# Altium integrated library Microchip PIC16 Part 1.IntLib: 1800 symbols (part 17 of 93)
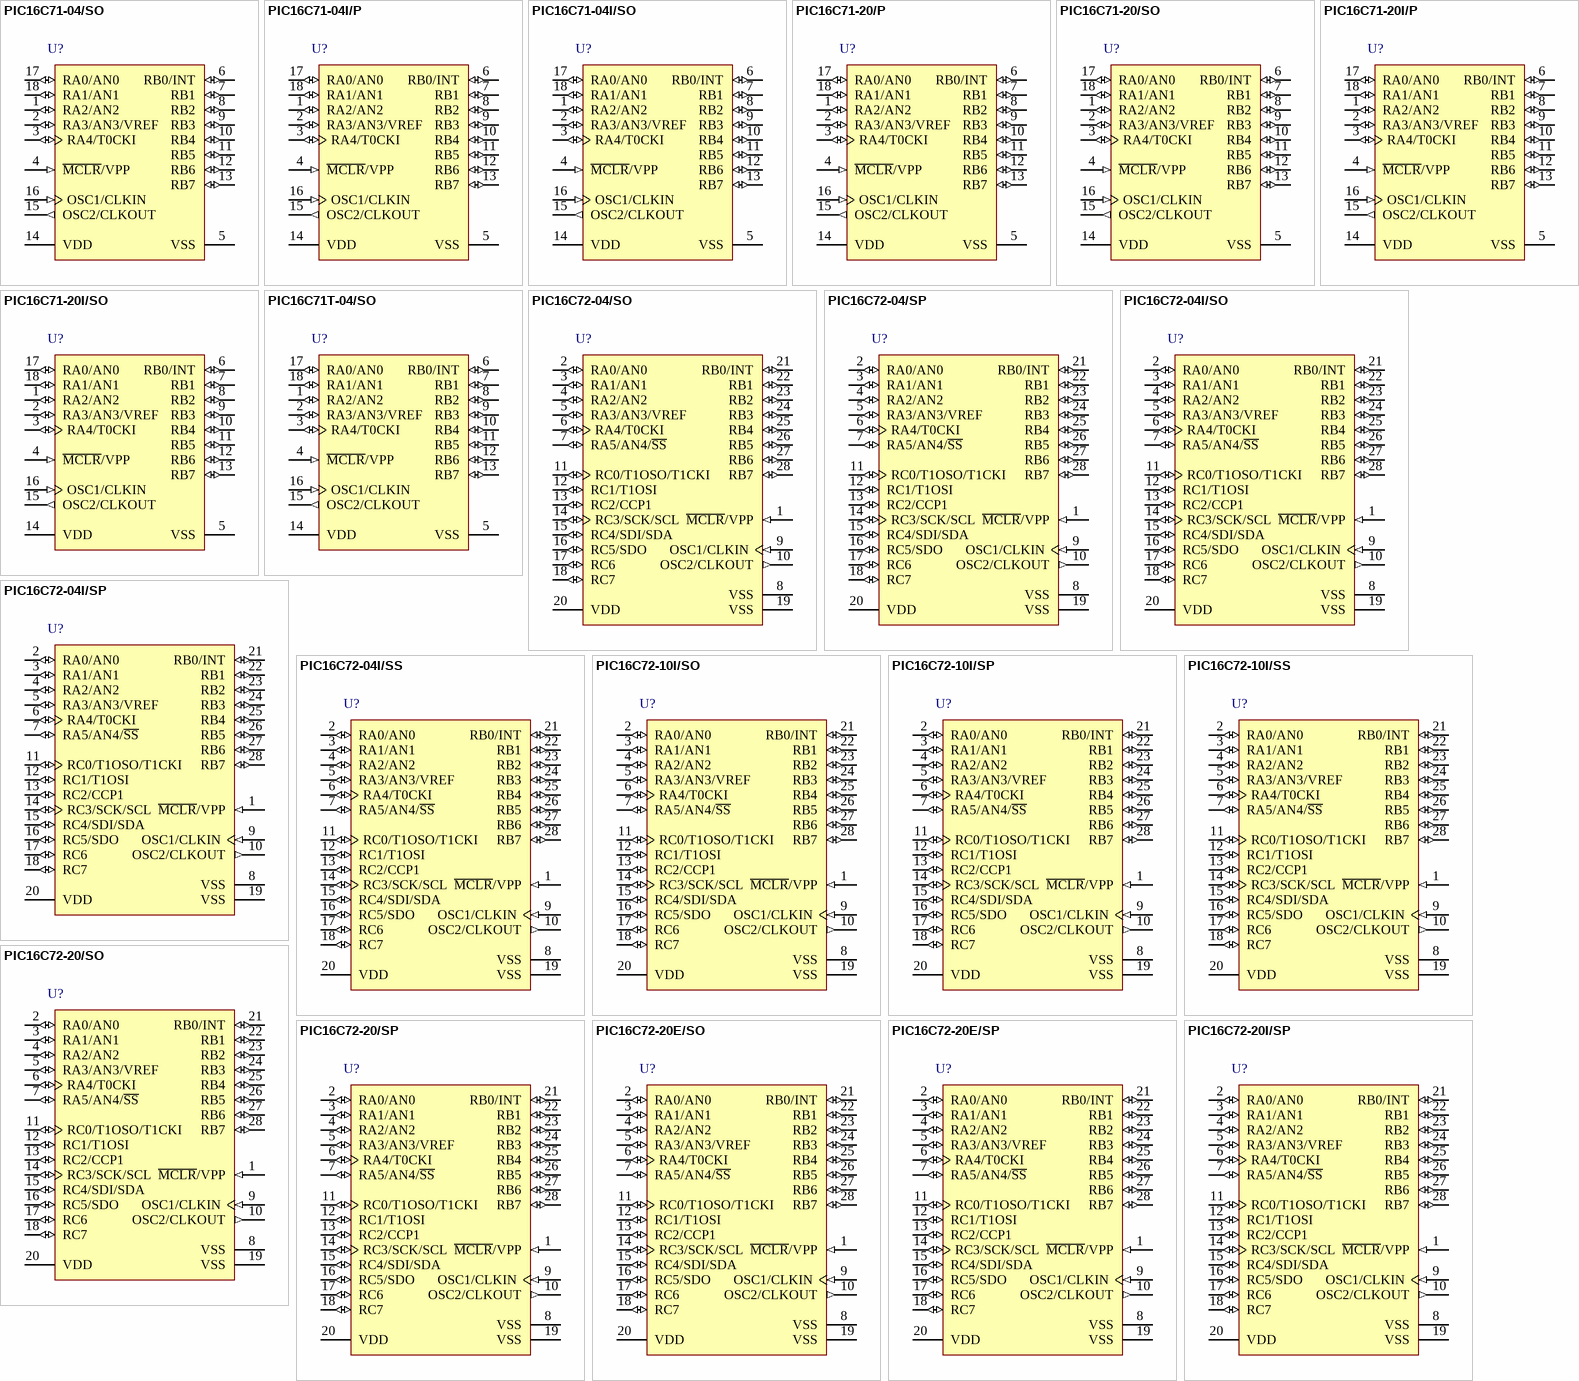
[diagram p116: symbols PIC16C71-04/SO to PIC16C72-20I/SP]

## PIC16C72-10I/SP
designator U?
8-Bit CMOS Microcontroller with A/D Converter, 10 MHz, 22 I/O, -40 to 85 degC, 28-pin SPDIP (SP28), Tube; Manufacturer: Microchip; PartNumber: PIC16C72-10I/SP; # of A/D Channels: 5; Digital Communication: 0 -UART, 0 -A/E/USART, 0 -SPI, 0 -I2C, 0 -MSSP(SPI/I2C), 1 -SSP(SPI/I2C); I/O Pins: 22; Max. CPU Speed MHz: 10; Memory Type: OTP; Operation Voltage Range: 2.5V - 6V; Program Memory KBytes: 3.5; Program Memory KWords: 2; RAM: 128; Timers: 2 - 8-bit, 1 - 16-bit; DatasheetVersion: Rev. E; PackageVersion: C04-070B, 12/2012; PackageReference: SPDIP-SP28; PackageDescription: 28-Lead Plastic Dual In-Line, 34.86 x 6.79 mm Body, 2.54 mm Pitch; Supplier 1: Digi-Key; Supplier Part Number 1: PIC16C72-10I/SP-ND; Supplier 2: Mouser; Supplier Part Number 2: 579-PIC16C72-10I/SP; Packing: TUBE; RoHS: TRUE; Mounting Technology: Through Hole; ComponentLink1Description: Datasheet; ComponentLink1URL: http://ww1.microchip.com/downloads/en/DeviceDoc/30390e.pdf; ComponentLink2Description: Package Specification; ComponentLink2URL: http://www.microchip.com/stellent/groups/techpub_sg/documents/packagingspec/en012702.pdf; ComponentLink3Description: URL Link1; ComponentLink3URL: Product URL:http://www.microchip.com/datasheet/PIC16C72
footprint MCHP-SPDIP-SP28 (DIP, 28-Leads, Body 34.86x6.79mm, Pitch 2.54mm)
pins: 1 ~{MCLR}/VPP (in), 2 RA0/AN0 (io), 3 RA1/AN1 (io), 4 RA2/AN2 (io), 5 RA3/AN3/VREF (io), 6 RA4/T0CKI (io), 7 RA5/AN4/~{SS} (io), 8 VSS (power) "Ground reference for logic and I/O pins.", 9 OSC1/CLKIN (in), 10 OSC2/CLKOUT (out), 11 RC0/T1OSO/T1CKI (io), 12 RC1/T1OSI (io), 13 RC2/CCP1 (io), 14 RC3/SCK/SCL (io), 15 RC4/SDI/SDA (io), 16 RC5/SDO (io), 17 RC6 (io) "PORTC is a bi-directional I/O port.", 18 RC7 (io) "PORTC is a bi-directional I/O port.", 19 VSS (power) "Ground reference for logic and I/O pins.", 20 VDD (power) "Positive supply for logic and I/O pins.", 21 RB0/INT (io), 22 RB1 (io) "PORTB is a bi-directional I/O port. PORTB can be software programmed for internal weak pull-up on all inputs.", 23 RB2 (io) "PORTB is a bi-directional I/O port. PORTB can be software programmed for internal weak pull-up on all inputs.", 24 RB3 (io) "PORTB is a bi-directional I/O port. PORTB can be software programmed for internal weak pull-up on all inputs.", 25 RB4 (io) "PORTB is a bi-directional I/O port. PORTB can be software programmed for internal weak pull-up on all inputs.Interrupt on change pin.", 26 RB5 (io) "PORTB is a bi-directional I/O port. PORTB can be software programmed for internal weak pull-up on all inputs.Interrupt on change pin.", 27 RB6 (io) "PORTB is a bi-directional I/O port. PORTB can be software programmed for internal weak pull-up on all inputs.Interrupt on change pin. Serial programming clock.", 28 RB7 (io) "PORTB is a bi-directional I/O port. PORTB can be software programmed for internal weak pull-up on all inputs.Interrupt on change pin. Serial programming data."

## PIC16C72-10I/SS
designator U?
8-Bit CMOS Microcontroller with A/D Converter, 10 MHz, 22 I/O, -40 to 85 degC, 28-pin SSOP (SS28), Tube; Manufacturer: Microchip; PartNumber: PIC16C72-10I/SS; # of A/D Channels: 5; Digital Communication: 0 -UART, 0 -A/E/USART, 0 -SPI, 0 -I2C, 0 -MSSP(SPI/I2C), 1 -SSP(SPI/I2C); I/O Pins: 22; Max. CPU Speed MHz: 10; Memory Type: OTP; Operation Voltage Range: 2.5V - 6V; Program Memory KBytes: 3.5; Program Memory KWords: 2; RAM: 128; Timers: 2 - 8-bit, 1 - 16-bit; DatasheetVersion: Rev. E; PackageVersion: C04-073B, 12/2012; PackageReference: SSOP-SS28; PackageDescription: 28-Lead Plastic Shrink Small Outline, 10.2 x 5.3 mm Body, 0.65 mm Pitch; Supplier 1: Digi-Key; Supplier Part Number 1: PIC16C72-10I/SS-ND; Supplier 2: Mouser; Supplier Part Number 2: 579-PIC16C72-10I/SS; Packing: TUBE; RoHS: TRUE; Mounting Technology: Surface Mount; ComponentLink1Description: Datasheet; ComponentLink1URL: http://ww1.microchip.com/downloads/en/DeviceDoc/30390e.pdf; ComponentLink2Description: Package Specification; ComponentLink2URL: http://www.microchip.com/stellent/groups/techpub_sg/documents/packagingspec/en012702.pdf; ComponentLink3Description: URL Link1; ComponentLink3URL: Product URL:http://www.microchip.com/datasheet/PIC16C72
footprint MCHP-SSOP-SS28_N (SOP, 28-Leads, Body 10.2x5.3mm, Pitch 0.65mm, IPC Medium Density)
footprint MCHP-SSOP-SS28_L (SOP, 28-Leads, Body 10.2x5.3mm, Pitch 0.65mm, IPC High Density)
footprint MCHP-SSOP-SS28_M (SOP, 28-Leads, Body 10.2x5.3mm, Pitch 0.65mm, IPC Low Density)
pins: 1 ~{MCLR}/VPP (in), 2 RA0/AN0 (io), 3 RA1/AN1 (io), 4 RA2/AN2 (io), 5 RA3/AN3/VREF (io), 6 RA4/T0CKI (io), 7 RA5/AN4/~{SS} (io), 8 VSS (power) "Ground reference for logic and I/O pins.", 9 OSC1/CLKIN (in), 10 OSC2/CLKOUT (out), 11 RC0/T1OSO/T1CKI (io), 12 RC1/T1OSI (io), 13 RC2/CCP1 (io), 14 RC3/SCK/SCL (io), 15 RC4/SDI/SDA (io), 16 RC5/SDO (io), 17 RC6 (io) "PORTC is a bi-directional I/O port.", 18 RC7 (io) "PORTC is a bi-directional I/O port.", 19 VSS (power) "Ground reference for logic and I/O pins.", 20 VDD (power) "Positive supply for logic and I/O pins.", 21 RB0/INT (io), 22 RB1 (io) "PORTB is a bi-directional I/O port. PORTB can be software programmed for internal weak pull-up on all inputs.", 23 RB2 (io) "PORTB is a bi-directional I/O port. PORTB can be software programmed for internal weak pull-up on all inputs.", 24 RB3 (io) "PORTB is a bi-directional I/O port. PORTB can be software programmed for internal weak pull-up on all inputs.", 25 RB4 (io) "PORTB is a bi-directional I/O port. PORTB can be software programmed for internal weak pull-up on all inputs.Interrupt on change pin.", 26 RB5 (io) "PORTB is a bi-directional I/O port. PORTB can be software programmed for internal weak pull-up on all inputs.Interrupt on change pin.", 27 RB6 (io) "PORTB is a bi-directional I/O port. PORTB can be software programmed for internal weak pull-up on all inputs.Interrupt on change pin. Serial programming clock.", 28 RB7 (io) "PORTB is a bi-directional I/O port. PORTB can be software programmed for internal weak pull-up on all inputs.Interrupt on change pin. Serial programming data."

## PIC16C72-20/SO
designator U?
8-Bit CMOS Microcontroller with A/D Converter, 20 MHz, 22 I/O, 0 to 70 degC, 28-pin SOIC (SO28), Tube; Manufacturer: Microchip; PartNumber: PIC16C72-20/SO; # of A/D Channels: 5; Digital Communication: 0 -UART, 0 -A/E/USART, 0 -SPI, 0 -I2C, 0 -MSSP(SPI/I2C), 1 -SSP(SPI/I2C); I/O Pins: 22; Max. CPU Speed MHz: 20; Memory Type: OTP; Operation Voltage Range: 2.5V - 6V; Program Memory KBytes: 3.5; Program Memory KWords: 2; RAM: 128; Timers: 2 - 8-bit, 1 - 16-bit; DatasheetVersion: Rev. E; PackageVersion: C04-052C, 12/2012; PackageReference: SOIC-SO28; PackageDescription: 28-Lead Plastic Small Outline, 17.9 x 7.5 mm Body, 1.27 mm Pitch; Supplier 1: Digi-Key; Supplier Part Number 1: PIC16C72-20/SO-ND; Supplier 2: Mouser; Supplier Part Number 2: 579-PIC16C72-20/SO; Packing: TUBE; RoHS: TRUE; Mounting Technology: Surface Mount; ComponentLink1Description: Datasheet; ComponentLink1URL: http://ww1.microchip.com/downloads/en/DeviceDoc/30390e.pdf; ComponentLink2Description: Package Specification; ComponentLink2URL: http://www.microchip.com/stellent/groups/techpub_sg/documents/packagingspec/en012702.pdf; ComponentLink3Description: URL Link1; ComponentLink3URL: Product URL:http://www.microchip.com/datasheet/PIC16C72
footprint MCHP-SOIC-SO28_N (SOIC, 28-Leads, Body 17.9x7.5mm, Pitch 1.27mm, IPC Medium Density)
footprint MCHP-SOIC-SO28_L (SOIC, 28-Leads, Body 17.9x7.5mm, Pitch 1.27mm, IPC High Density)
footprint MCHP-SOIC-SO28_M (SOIC, 28-Leads, Body 17.9x7.5mm, Pitch 1.27mm, IPC Low Density)
pins: 1 ~{MCLR}/VPP (in), 2 RA0/AN0 (io), 3 RA1/AN1 (io), 4 RA2/AN2 (io), 5 RA3/AN3/VREF (io), 6 RA4/T0CKI (io), 7 RA5/AN4/~{SS} (io), 8 VSS (power) "Ground reference for logic and I/O pins.", 9 OSC1/CLKIN (in), 10 OSC2/CLKOUT (out), 11 RC0/T1OSO/T1CKI (io), 12 RC1/T1OSI (io), 13 RC2/CCP1 (io), 14 RC3/SCK/SCL (io), 15 RC4/SDI/SDA (io), 16 RC5/SDO (io), 17 RC6 (io) "PORTC is a bi-directional I/O port.", 18 RC7 (io) "PORTC is a bi-directional I/O port.", 19 VSS (power) "Ground reference for logic and I/O pins.", 20 VDD (power) "Positive supply for logic and I/O pins.", 21 RB0/INT (io), 22 RB1 (io) "PORTB is a bi-directional I/O port. PORTB can be software programmed for internal weak pull-up on all inputs.", 23 RB2 (io) "PORTB is a bi-directional I/O port. PORTB can be software programmed for internal weak pull-up on all inputs.", 24 RB3 (io) "PORTB is a bi-directional I/O port. PORTB can be software programmed for internal weak pull-up on all inputs.", 25 RB4 (io) "PORTB is a bi-directional I/O port. PORTB can be software programmed for internal weak pull-up on all inputs.Interrupt on change pin.", 26 RB5 (io) "PORTB is a bi-directional I/O port. PORTB can be software programmed for internal weak pull-up on all inputs.Interrupt on change pin.", 27 RB6 (io) "PORTB is a bi-directional I/O port. PORTB can be software programmed for internal weak pull-up on all inputs.Interrupt on change pin. Serial programming clock.", 28 RB7 (io) "PORTB is a bi-directional I/O port. PORTB can be software programmed for internal weak pull-up on all inputs.Interrupt on change pin. Serial programming data."

## PIC16C72-20/SP
designator U?
8-Bit CMOS Microcontroller with A/D Converter, 20 MHz, 22 I/O, 0 to 70 degC, 28-pin SPDIP (SP28), Tube; Manufacturer: Microchip; PartNumber: PIC16C72-20/SP; # of A/D Channels: 5; Digital Communication: 0 -UART, 0 -A/E/USART, 0 -SPI, 0 -I2C, 0 -MSSP(SPI/I2C), 1 -SSP(SPI/I2C); I/O Pins: 22; Max. CPU Speed MHz: 20; Memory Type: OTP; Operation Voltage Range: 2.5V - 6V; Program Memory KBytes: 3.5; Program Memory KWords: 2; RAM: 128; Timers: 2 - 8-bit, 1 - 16-bit; DatasheetVersion: Rev. E; PackageVersion: C04-070B, 12/2012; PackageReference: SPDIP-SP28; PackageDescription: 28-Lead Plastic Dual In-Line, 34.86 x 6.79 mm Body, 2.54 mm Pitch; Supplier 1: Digi-Key; Supplier Part Number 1: PIC16C72-20/SP-ND; Supplier 2: Mouser; Supplier Part Number 2: 579-PIC16C72-20/SP; Packing: TUBE; RoHS: TRUE; Mounting Technology: Through Hole; ComponentLink1Description: Datasheet; ComponentLink1URL: http://ww1.microchip.com/downloads/en/DeviceDoc/30390e.pdf; ComponentLink2Description: Package Specification; ComponentLink2URL: http://www.microchip.com/stellent/groups/techpub_sg/documents/packagingspec/en012702.pdf; ComponentLink3Description: URL Link1; ComponentLink3URL: Product URL:http://www.microchip.com/datasheet/PIC16C72
footprint MCHP-SPDIP-SP28 (DIP, 28-Leads, Body 34.86x6.79mm, Pitch 2.54mm)
pins: 1 ~{MCLR}/VPP (in), 2 RA0/AN0 (io), 3 RA1/AN1 (io), 4 RA2/AN2 (io), 5 RA3/AN3/VREF (io), 6 RA4/T0CKI (io), 7 RA5/AN4/~{SS} (io), 8 VSS (power) "Ground reference for logic and I/O pins.", 9 OSC1/CLKIN (in), 10 OSC2/CLKOUT (out), 11 RC0/T1OSO/T1CKI (io), 12 RC1/T1OSI (io), 13 RC2/CCP1 (io), 14 RC3/SCK/SCL (io), 15 RC4/SDI/SDA (io), 16 RC5/SDO (io), 17 RC6 (io) "PORTC is a bi-directional I/O port.", 18 RC7 (io) "PORTC is a bi-directional I/O port.", 19 VSS (power) "Ground reference for logic and I/O pins.", 20 VDD (power) "Positive supply for logic and I/O pins.", 21 RB0/INT (io), 22 RB1 (io) "PORTB is a bi-directional I/O port. PORTB can be software programmed for internal weak pull-up on all inputs.", 23 RB2 (io) "PORTB is a bi-directional I/O port. PORTB can be software programmed for internal weak pull-up on all inputs.", 24 RB3 (io) "PORTB is a bi-directional I/O port. PORTB can be software programmed for internal weak pull-up on all inputs.", 25 RB4 (io) "PORTB is a bi-directional I/O port. PORTB can be software programmed for internal weak pull-up on all inputs.Interrupt on change pin.", 26 RB5 (io) "PORTB is a bi-directional I/O port. PORTB can be software programmed for internal weak pull-up on all inputs.Interrupt on change pin.", 27 RB6 (io) "PORTB is a bi-directional I/O port. PORTB can be software programmed for internal weak pull-up on all inputs.Interrupt on change pin. Serial programming clock.", 28 RB7 (io) "PORTB is a bi-directional I/O port. PORTB can be software programmed for internal weak pull-up on all inputs.Interrupt on change pin. Serial programming data."

## PIC16C72-20E/SO
designator U?
8-Bit CMOS Microcontroller with A/D Converter, 20 MHz, 22 I/O, -40 to 125 degC, 28-pin SOIC (SO28), Tube; Manufacturer: Microchip; PartNumber: PIC16C72-20E/SO; # of A/D Channels: 5; Digital Communication: 0 -UART, 0 -A/E/USART, 0 -SPI, 0 -I2C, 0 -MSSP(SPI/I2C), 1 -SSP(SPI/I2C); I/O Pins: 22; Max. CPU Speed MHz: 20; Memory Type: OTP; Operation Voltage Range: 2.5V - 6V; Program Memory KBytes: 3.5; Program Memory KWords: 2; RAM: 128; Timers: 2 - 8-bit, 1 - 16-bit; DatasheetVersion: Rev. E; PackageVersion: C04-052C, 12/2012; PackageReference: SOIC-SO28; PackageDescription: 28-Lead Plastic Small Outline, 17.9 x 7.5 mm Body, 1.27 mm Pitch; Supplier 1: Digi-Key; Supplier Part Number 1: PIC16C72-20E/SO-ND; Supplier 2: Mouser; Supplier Part Number 2: 579-PIC16C7220ESO; Packing: TUBE; RoHS: TRUE; Mounting Technology: Surface Mount; ComponentLink1Description: Datasheet; ComponentLink1URL: http://ww1.microchip.com/downloads/en/DeviceDoc/30390e.pdf; ComponentLink2Description: Package Specification; ComponentLink2URL: http://www.microchip.com/stellent/groups/techpub_sg/documents/packagingspec/en012702.pdf; ComponentLink3Description: URL Link1; ComponentLink3URL: Product URL:http://www.microchip.com/datasheet/PIC16C72
footprint MCHP-SOIC-SO28_N (SOIC, 28-Leads, Body 17.9x7.5mm, Pitch 1.27mm, IPC Medium Density)
footprint MCHP-SOIC-SO28_L (SOIC, 28-Leads, Body 17.9x7.5mm, Pitch 1.27mm, IPC High Density)
footprint MCHP-SOIC-SO28_M (SOIC, 28-Leads, Body 17.9x7.5mm, Pitch 1.27mm, IPC Low Density)
pins: 1 ~{MCLR}/VPP (in), 2 RA0/AN0 (io), 3 RA1/AN1 (io), 4 RA2/AN2 (io), 5 RA3/AN3/VREF (io), 6 RA4/T0CKI (io), 7 RA5/AN4/~{SS} (io), 8 VSS (power) "Ground reference for logic and I/O pins.", 9 OSC1/CLKIN (in), 10 OSC2/CLKOUT (out), 11 RC0/T1OSO/T1CKI (io), 12 RC1/T1OSI (io), 13 RC2/CCP1 (io), 14 RC3/SCK/SCL (io), 15 RC4/SDI/SDA (io), 16 RC5/SDO (io), 17 RC6 (io) "PORTC is a bi-directional I/O port.", 18 RC7 (io) "PORTC is a bi-directional I/O port.", 19 VSS (power) "Ground reference for logic and I/O pins.", 20 VDD (power) "Positive supply for logic and I/O pins.", 21 RB0/INT (io), 22 RB1 (io) "PORTB is a bi-directional I/O port. PORTB can be software programmed for internal weak pull-up on all inputs.", 23 RB2 (io) "PORTB is a bi-directional I/O port. PORTB can be software programmed for internal weak pull-up on all inputs.", 24 RB3 (io) "PORTB is a bi-directional I/O port. PORTB can be software programmed for internal weak pull-up on all inputs.", 25 RB4 (io) "PORTB is a bi-directional I/O port. PORTB can be software programmed for internal weak pull-up on all inputs.Interrupt on change pin.", 26 RB5 (io) "PORTB is a bi-directional I/O port. PORTB can be software programmed for internal weak pull-up on all inputs.Interrupt on change pin.", 27 RB6 (io) "PORTB is a bi-directional I/O port. PORTB can be software programmed for internal weak pull-up on all inputs.Interrupt on change pin. Serial programming clock.", 28 RB7 (io) "PORTB is a bi-directional I/O port. PORTB can be software programmed for internal weak pull-up on all inputs.Interrupt on change pin. Serial programming data."

## PIC16C72-20E/SP
designator U?
8-Bit CMOS Microcontroller with A/D Converter, 20 MHz, 22 I/O, -40 to 125 degC, 28-pin SPDIP (SP28), Tube; Manufacturer: Microchip; PartNumber: PIC16C72-20E/SP; # of A/D Channels: 5; Digital Communication: 0 -UART, 0 -A/E/USART, 0 -SPI, 0 -I2C, 0 -MSSP(SPI/I2C), 1 -SSP(SPI/I2C); I/O Pins: 22; Max. CPU Speed MHz: 20; Memory Type: OTP; Operation Voltage Range: 2.5V - 6V; Program Memory KBytes: 3.5; Program Memory KWords: 2; RAM: 128; Timers: 2 - 8-bit, 1 - 16-bit; DatasheetVersion: Rev. E; PackageVersion: C04-070B, 12/2012; PackageReference: SPDIP-SP28; PackageDescription: 28-Lead Plastic Dual In-Line, 34.86 x 6.79 mm Body, 2.54 mm Pitch; Supplier 1: Digi-Key; Supplier Part Number 1: PIC16C72-20E/SP-ND; Supplier 2: Mouser; Supplier Part Number 2: 579-PIC16C72-20E/SP; Packing: TUBE; RoHS: TRUE; Mounting Technology: Through Hole; ComponentLink1Description: Datasheet; ComponentLink1URL: http://ww1.microchip.com/downloads/en/DeviceDoc/30390e.pdf; ComponentLink2Description: Package Specification; ComponentLink2URL: http://www.microchip.com/stellent/groups/techpub_sg/documents/packagingspec/en012702.pdf; ComponentLink3Description: URL Link1; ComponentLink3URL: Product URL:http://www.microchip.com/datasheet/PIC16C72
footprint MCHP-SPDIP-SP28 (DIP, 28-Leads, Body 34.86x6.79mm, Pitch 2.54mm)
pins: 1 ~{MCLR}/VPP (in), 2 RA0/AN0 (io), 3 RA1/AN1 (io), 4 RA2/AN2 (io), 5 RA3/AN3/VREF (io), 6 RA4/T0CKI (io), 7 RA5/AN4/~{SS} (io), 8 VSS (power) "Ground reference for logic and I/O pins.", 9 OSC1/CLKIN (in), 10 OSC2/CLKOUT (out), 11 RC0/T1OSO/T1CKI (io), 12 RC1/T1OSI (io), 13 RC2/CCP1 (io), 14 RC3/SCK/SCL (io), 15 RC4/SDI/SDA (io), 16 RC5/SDO (io), 17 RC6 (io) "PORTC is a bi-directional I/O port.", 18 RC7 (io) "PORTC is a bi-directional I/O port.", 19 VSS (power) "Ground reference for logic and I/O pins.", 20 VDD (power) "Positive supply for logic and I/O pins.", 21 RB0/INT (io), 22 RB1 (io) "PORTB is a bi-directional I/O port. PORTB can be software programmed for internal weak pull-up on all inputs.", 23 RB2 (io) "PORTB is a bi-directional I/O port. PORTB can be software programmed for internal weak pull-up on all inputs.", 24 RB3 (io) "PORTB is a bi-directional I/O port. PORTB can be software programmed for internal weak pull-up on all inputs.", 25 RB4 (io) "PORTB is a bi-directional I/O port. PORTB can be software programmed for internal weak pull-up on all inputs.Interrupt on change pin.", 26 RB5 (io) "PORTB is a bi-directional I/O port. PORTB can be software programmed for internal weak pull-up on all inputs.Interrupt on change pin.", 27 RB6 (io) "PORTB is a bi-directional I/O port. PORTB can be software programmed for internal weak pull-up on all inputs.Interrupt on change pin. Serial programming clock.", 28 RB7 (io) "PORTB is a bi-directional I/O port. PORTB can be software programmed for internal weak pull-up on all inputs.Interrupt on change pin. Serial programming data."

## PIC16C72-20I/SP
designator U?
8-Bit CMOS Microcontroller with A/D Converter, 20 MHz, 22 I/O, -40 to 85 degC, 28-pin SPDIP (SP28), Tube; Manufacturer: Microchip; PartNumber: PIC16C72-20I/SP; # of A/D Channels: 5; Digital Communication: 0 -UART, 0 -A/E/USART, 0 -SPI, 0 -I2C, 0 -MSSP(SPI/I2C), 1 -SSP(SPI/I2C); I/O Pins: 22; Max. CPU Speed MHz: 20; Memory Type: OTP; Operation Voltage Range: 2.5V - 6V; Program Memory KBytes: 3.5; Program Memory KWords: 2; RAM: 128; Timers: 2 - 8-bit, 1 - 16-bit; DatasheetVersion: Rev. E; PackageVersion: C04-070B, 12/2012; PackageReference: SPDIP-SP28; PackageDescription: 28-Lead Plastic Dual In-Line, 34.86 x 6.79 mm Body, 2.54 mm Pitch; Supplier 1: Digi-Key; Supplier Part Number 1: PIC16C72-20I/SP-ND; Supplier 2: Mouser; Supplier Part Number 2: 579-PIC16C72-20I/SP; Packing: TUBE; RoHS: TRUE; Mounting Technology: Through Hole; ComponentLink1Description: Datasheet; ComponentLink1URL: http://ww1.microchip.com/downloads/en/DeviceDoc/30390e.pdf; ComponentLink2Description: Package Specification; ComponentLink2URL: http://www.microchip.com/stellent/groups/techpub_sg/documents/packagingspec/en012702.pdf; ComponentLink3Description: URL Link1; ComponentLink3URL: Product URL:http://www.microchip.com/datasheet/PIC16C72
footprint MCHP-SPDIP-SP28 (DIP, 28-Leads, Body 34.86x6.79mm, Pitch 2.54mm)
pins: 1 ~{MCLR}/VPP (in), 2 RA0/AN0 (io), 3 RA1/AN1 (io), 4 RA2/AN2 (io), 5 RA3/AN3/VREF (io), 6 RA4/T0CKI (io), 7 RA5/AN4/~{SS} (io), 8 VSS (power) "Ground reference for logic and I/O pins.", 9 OSC1/CLKIN (in), 10 OSC2/CLKOUT (out), 11 RC0/T1OSO/T1CKI (io), 12 RC1/T1OSI (io), 13 RC2/CCP1 (io), 14 RC3/SCK/SCL (io), 15 RC4/SDI/SDA (io), 16 RC5/SDO (io), 17 RC6 (io) "PORTC is a bi-directional I/O port.", 18 RC7 (io) "PORTC is a bi-directional I/O port.", 19 VSS (power) "Ground reference for logic and I/O pins.", 20 VDD (power) "Positive supply for logic and I/O pins.", 21 RB0/INT (io), 22 RB1 (io) "PORTB is a bi-directional I/O port. PORTB can be software programmed for internal weak pull-up on all inputs.", 23 RB2 (io) "PORTB is a bi-directional I/O port. PORTB can be software programmed for internal weak pull-up on all inputs.", 24 RB3 (io) "PORTB is a bi-directional I/O port. PORTB can be software programmed for internal weak pull-up on all inputs.", 25 RB4 (io) "PORTB is a bi-directional I/O port. PORTB can be software programmed for internal weak pull-up on all inputs.Interrupt on change pin.", 26 RB5 (io) "PORTB is a bi-directional I/O port. PORTB can be software programmed for internal weak pull-up on all inputs.Interrupt on change pin.", 27 RB6 (io) "PORTB is a bi-directional I/O port. PORTB can be software programmed for internal weak pull-up on all inputs.Interrupt on change pin. Serial programming clock.", 28 RB7 (io) "PORTB is a bi-directional I/O port. PORTB can be software programmed for internal weak pull-up on all inputs.Interrupt on change pin. Serial programming data."

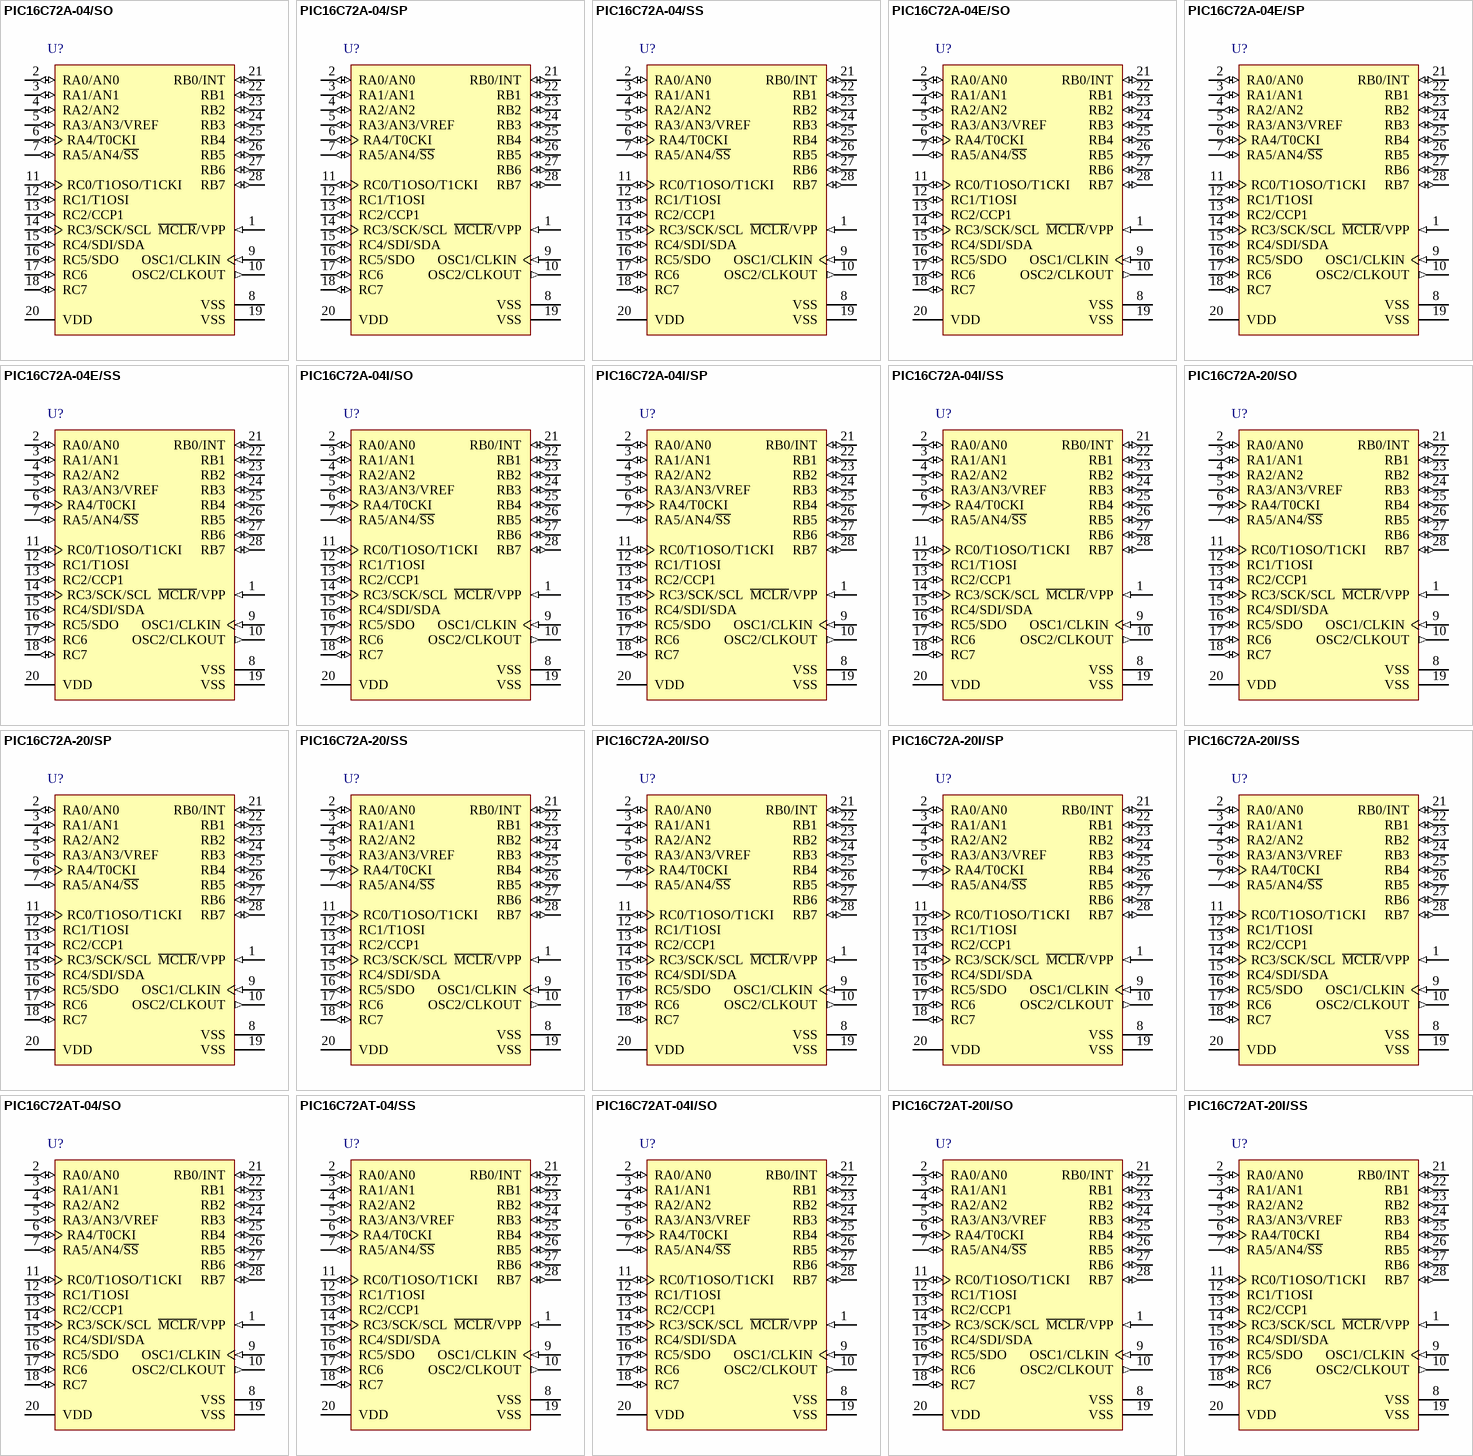
[diagram p14: symbols PIC16C72A-04/SO to PIC16C72AT-20I/SS]

## PIC16C72A-04/SO
designator U?
8-Bit CMOS Microcontroller, 4 MHz, 22 I/O, 0 to 70 degC, 28-pin SOIC (SO28), Tube; Manufacturer: Microchip; PartNumber: PIC16C72A-04/SO; # of A/D Channels: 5; Digital Communication: 0 -UART, 0 -A/E/USART, 0 -SPI, 0 -I2C, 0 -MSSP(SPI/I2C), 1 -SSP(SPI/I2C); I/O Pins: 22; Max. CPU Speed MHz: 4; Memory Type: OTP; Operation Voltage Range: 4V - 5.5V; Program Memory KBytes: 3.5; Program Memory KWords: 2; RAM: 128; Timers: 2 - 8-bit, 1 - 16-bit; DatasheetVersion: Rev. A; PackageVersion: C04-052C, 12/2012; PackageReference: SOIC-SO28; PackageDescription: 28-Lead Plastic Small Outline, 17.9 x 7.5 mm Body, 1.27 mm Pitch; Supplier 1: Digi-Key; Supplier Part Number 1: PIC16C72A-04/SO-ND; Supplier 2: Newark; Supplier Part Number 2: 96K3838; Supplier 3: Mouser; Supplier Part Number 3: 579-PIC16C72A-04/SO; Packing: TUBE; RoHS: TRUE; Mounting Technology: Surface Mount; ComponentLink1Description: Datasheet; ComponentLink1URL: http://ww1.microchip.com/downloads/en/DeviceDoc/35008C.pdf; ComponentLink2Description: Package Specification; ComponentLink2URL: http://www.microchip.com/stellent/groups/techpub_sg/documents/packagingspec/en012702.pdf; ComponentLink3Description: URL Link1; ComponentLink3URL: Product URL:http://www.microchip.com/datasheet/PIC16C72A
footprint MCHP-SOIC-SO28_N (SOIC, 28-Leads, Body 17.9x7.5mm, Pitch 1.27mm, IPC Medium Density)
footprint MCHP-SOIC-SO28_L (SOIC, 28-Leads, Body 17.9x7.5mm, Pitch 1.27mm, IPC High Density)
footprint MCHP-SOIC-SO28_M (SOIC, 28-Leads, Body 17.9x7.5mm, Pitch 1.27mm, IPC Low Density)
pins: 1 ~{MCLR}/VPP (in), 2 RA0/AN0 (io), 3 RA1/AN1 (io), 4 RA2/AN2 (io), 5 RA3/AN3/VREF (io), 6 RA4/T0CKI (io), 7 RA5/AN4/~{SS} (io), 8 VSS (power) "Ground reference for logic and I/O pins.", 9 OSC1/CLKIN (in), 10 OSC2/CLKOUT (out), 11 RC0/T1OSO/T1CKI (io), 12 RC1/T1OSI (io), 13 RC2/CCP1 (io), 14 RC3/SCK/SCL (io), 15 RC4/SDI/SDA (io), 16 RC5/SDO (io), 17 RC6 (io) "PORTC is a bi-directional I/O port.", 18 RC7 (io) "PORTC is a bi-directional I/O port.", 19 VSS (power) "Ground reference for logic and I/O pins.", 20 VDD (power) "Positive supply for logic and I/O pins.", 21 RB0/INT (io), 22 RB1 (io) "PORTB is a bi-directional I/O port. PORTB can be software programmed for internal weak pull-up on all inputs.", 23 RB2 (io) "PORTB is a bi-directional I/O port. PORTB can be software programmed for internal weak pull-up on all inputs.", 24 RB3 (io) "PORTB is a bi-directional I/O port. PORTB can be software programmed for internal weak pull-up on all inputs.", 25 RB4 (io) "PORTB is a bi-directional I/O port. PORTB can be software programmed for internal weak pull-up on all inputs.Interrupt on change pin.", 26 RB5 (io) "PORTB is a bi-directional I/O port. PORTB can be software programmed for internal weak pull-up on all inputs.Interrupt on change pin.", 27 RB6 (io) "PORTB is a bi-directional I/O port. PORTB can be software programmed for internal weak pull-up on all inputs.Interrupt on change pin. Serial programming clock.", 28 RB7 (io) "PORTB is a bi-directional I/O port. PORTB can be software programmed for internal weak pull-up on all inputs.Interrupt on change pin. Serial programming data."

## PIC16C72A-04/SP
designator U?
8-Bit CMOS Microcontroller, 4 MHz, 22 I/O, 0 to 70 degC, 28-pin SPDIP (SP28), Tube; Manufacturer: Microchip; PartNumber: PIC16C72A-04/SP; # of A/D Channels: 5; Digital Communication: 0 -UART, 0 -A/E/USART, 0 -SPI, 0 -I2C, 0 -MSSP(SPI/I2C), 1 -SSP(SPI/I2C); I/O Pins: 22; Max. CPU Speed MHz: 4; Memory Type: OTP; Operation Voltage Range: 4V - 5.5V; Program Memory KBytes: 3.5; Program Memory KWords: 2; RAM: 128; Timers: 2 - 8-bit, 1 - 16-bit; DatasheetVersion: Rev. A; PackageVersion: C04-070B, 12/2012; PackageReference: SPDIP-SP28; PackageDescription: 28-Lead Plastic Dual In-Line, 34.86 x 6.79 mm Body, 2.54 mm Pitch; Supplier 1: Digi-Key; Supplier Part Number 1: PIC16C72A-04/SP-ND; Supplier 2: Farnell; Supplier Part Number 2: 1137317; Supplier 3: Newark; Supplier Part Number 3: 24M5881; Supplier 4: Newark; Supplier Part Number 4: 12C1924; Supplier 5: Mouser; Supplier Part Number 5: 579-PIC16C72A04SP; Packing: TUBE; RoHS: TRUE; Mounting Technology: Through Hole; ComponentLink1Description: Datasheet; ComponentLink1URL: http://ww1.microchip.com/downloads/en/DeviceDoc/35008C.pdf; ComponentLink2Description: Package Specification; ComponentLink2URL: http://www.microchip.com/stellent/groups/techpub_sg/documents/packagingspec/en012702.pdf; ComponentLink3Description: URL Link1; ComponentLink3URL: Product URL:http://www.microchip.com/datasheet/PIC16C72A
footprint MCHP-SPDIP-SP28 (DIP, 28-Leads, Body 34.86x6.79mm, Pitch 2.54mm)
pins: 1 ~{MCLR}/VPP (in), 2 RA0/AN0 (io), 3 RA1/AN1 (io), 4 RA2/AN2 (io), 5 RA3/AN3/VREF (io), 6 RA4/T0CKI (io), 7 RA5/AN4/~{SS} (io), 8 VSS (power) "Ground reference for logic and I/O pins.", 9 OSC1/CLKIN (in), 10 OSC2/CLKOUT (out), 11 RC0/T1OSO/T1CKI (io), 12 RC1/T1OSI (io), 13 RC2/CCP1 (io), 14 RC3/SCK/SCL (io), 15 RC4/SDI/SDA (io), 16 RC5/SDO (io), 17 RC6 (io) "PORTC is a bi-directional I/O port.", 18 RC7 (io) "PORTC is a bi-directional I/O port.", 19 VSS (power) "Ground reference for logic and I/O pins.", 20 VDD (power) "Positive supply for logic and I/O pins.", 21 RB0/INT (io), 22 RB1 (io) "PORTB is a bi-directional I/O port. PORTB can be software programmed for internal weak pull-up on all inputs.", 23 RB2 (io) "PORTB is a bi-directional I/O port. PORTB can be software programmed for internal weak pull-up on all inputs.", 24 RB3 (io) "PORTB is a bi-directional I/O port. PORTB can be software programmed for internal weak pull-up on all inputs.", 25 RB4 (io) "PORTB is a bi-directional I/O port. PORTB can be software programmed for internal weak pull-up on all inputs.Interrupt on change pin.", 26 RB5 (io) "PORTB is a bi-directional I/O port. PORTB can be software programmed for internal weak pull-up on all inputs.Interrupt on change pin.", 27 RB6 (io) "PORTB is a bi-directional I/O port. PORTB can be software programmed for internal weak pull-up on all inputs.Interrupt on change pin. Serial programming clock.", 28 RB7 (io) "PORTB is a bi-directional I/O port. PORTB can be software programmed for internal weak pull-up on all inputs.Interrupt on change pin. Serial programming data."

## PIC16C72A-04/SS
designator U?
8-Bit CMOS Microcontroller, 4 MHz, 22 I/O, 0 to 70 degC, 28-pin SSOP (SS28), Tube; Manufacturer: Microchip; PartNumber: PIC16C72A-04/SS; # of A/D Channels: 5; Digital Communication: 0 -UART, 0 -A/E/USART, 0 -SPI, 0 -I2C, 0 -MSSP(SPI/I2C), 1 -SSP(SPI/I2C); I/O Pins: 22; Max. CPU Speed MHz: 4; Memory Type: OTP; Operation Voltage Range: 4V - 5.5V; Program Memory KBytes: 3.5; Program Memory KWords: 2; RAM: 128; Timers: 2 - 8-bit, 1 - 16-bit; DatasheetVersion: Rev. A; PackageVersion: C04-073B, 12/2012; PackageReference: SSOP-SS28; PackageDescription: 28-Lead Plastic Shrink Small Outline, 10.2 x 5.3 mm Body, 0.65 mm Pitch; Supplier 1: Digi-Key; Supplier Part Number 1: PIC16C72A-04/SS-ND; Supplier 2: Newark; Supplier Part Number 2: 23C4612; Supplier 3: Mouser; Supplier Part Number 3: 579-PIC16C72A-04/SS; Packing: TUBE; RoHS: TRUE; Mounting Technology: Surface Mount; ComponentLink1Description: Datasheet; ComponentLink1URL: http://ww1.microchip.com/downloads/en/DeviceDoc/35008C.pdf; ComponentLink2Description: Package Specification; ComponentLink2URL: http://www.microchip.com/stellent/groups/techpub_sg/documents/packagingspec/en012702.pdf; ComponentLink3Description: URL Link1; ComponentLink3URL: Product URL:http://www.microchip.com/datasheet/PIC16C72A
footprint MCHP-SSOP-SS28_N (SOP, 28-Leads, Body 10.2x5.3mm, Pitch 0.65mm, IPC Medium Density)
footprint MCHP-SSOP-SS28_L (SOP, 28-Leads, Body 10.2x5.3mm, Pitch 0.65mm, IPC High Density)
footprint MCHP-SSOP-SS28_M (SOP, 28-Leads, Body 10.2x5.3mm, Pitch 0.65mm, IPC Low Density)
pins: 1 ~{MCLR}/VPP (in), 2 RA0/AN0 (io), 3 RA1/AN1 (io), 4 RA2/AN2 (io), 5 RA3/AN3/VREF (io), 6 RA4/T0CKI (io), 7 RA5/AN4/~{SS} (io), 8 VSS (power) "Ground reference for logic and I/O pins.", 9 OSC1/CLKIN (in), 10 OSC2/CLKOUT (out), 11 RC0/T1OSO/T1CKI (io), 12 RC1/T1OSI (io), 13 RC2/CCP1 (io), 14 RC3/SCK/SCL (io), 15 RC4/SDI/SDA (io), 16 RC5/SDO (io), 17 RC6 (io) "PORTC is a bi-directional I/O port.", 18 RC7 (io) "PORTC is a bi-directional I/O port.", 19 VSS (power) "Ground reference for logic and I/O pins.", 20 VDD (power) "Positive supply for logic and I/O pins.", 21 RB0/INT (io), 22 RB1 (io) "PORTB is a bi-directional I/O port. PORTB can be software programmed for internal weak pull-up on all inputs.", 23 RB2 (io) "PORTB is a bi-directional I/O port. PORTB can be software programmed for internal weak pull-up on all inputs.", 24 RB3 (io) "PORTB is a bi-directional I/O port. PORTB can be software programmed for internal weak pull-up on all inputs.", 25 RB4 (io) "PORTB is a bi-directional I/O port. PORTB can be software programmed for internal weak pull-up on all inputs.Interrupt on change pin.", 26 RB5 (io) "PORTB is a bi-directional I/O port. PORTB can be software programmed for internal weak pull-up on all inputs.Interrupt on change pin.", 27 RB6 (io) "PORTB is a bi-directional I/O port. PORTB can be software programmed for internal weak pull-up on all inputs.Interrupt on change pin. Serial programming clock.", 28 RB7 (io) "PORTB is a bi-directional I/O port. PORTB can be software programmed for internal weak pull-up on all inputs.Interrupt on change pin. Serial programming data."

## PIC16C72A-04E/SO
designator U?
8-Bit CMOS Microcontroller, 4 MHz, 22 I/O, -40 to 125 degC, 28-pin SOIC (SO28), Tube; Manufacturer: Microchip; PartNumber: PIC16C72A-04E/SO; # of A/D Channels: 5; Digital Communication: 0 -UART, 0 -A/E/USART, 0 -SPI, 0 -I2C, 0 -MSSP(SPI/I2C), 1 -SSP(SPI/I2C); I/O Pins: 22; Max. CPU Speed MHz: 4; Memory Type: OTP; Operation Voltage Range: 4V - 5.5V; Program Memory KBytes: 3.5; Program Memory KWords: 2; RAM: 128; Timers: 2 - 8-bit, 1 - 16-bit; DatasheetVersion: Rev. A; PackageVersion: C04-052C, 12/2012; PackageReference: SOIC-SO28; PackageDescription: 28-Lead Plastic Small Outline, 17.9 x 7.5 mm Body, 1.27 mm Pitch; Supplier 1: Digi-Key; Supplier Part Number 1: PIC16C72A-04E/SO-ND; Supplier 2: Mouser; Supplier Part Number 2: 579-PIC16C72A-04E/SO; Packing: TUBE; RoHS: TRUE; Mounting Technology: Surface Mount; ComponentLink1Description: Datasheet; ComponentLink1URL: http://ww1.microchip.com/downloads/en/DeviceDoc/35008C.pdf; ComponentLink2Description: Package Specification; ComponentLink2URL: http://www.microchip.com/stellent/groups/techpub_sg/documents/packagingspec/en012702.pdf; ComponentLink3Description: URL Link1; ComponentLink3URL: Product URL:http://www.microchip.com/datasheet/PIC16C72A
footprint MCHP-SOIC-SO28_N (SOIC, 28-Leads, Body 17.9x7.5mm, Pitch 1.27mm, IPC Medium Density)
footprint MCHP-SOIC-SO28_L (SOIC, 28-Leads, Body 17.9x7.5mm, Pitch 1.27mm, IPC High Density)
footprint MCHP-SOIC-SO28_M (SOIC, 28-Leads, Body 17.9x7.5mm, Pitch 1.27mm, IPC Low Density)
pins: 1 ~{MCLR}/VPP (in), 2 RA0/AN0 (io), 3 RA1/AN1 (io), 4 RA2/AN2 (io), 5 RA3/AN3/VREF (io), 6 RA4/T0CKI (io), 7 RA5/AN4/~{SS} (io), 8 VSS (power) "Ground reference for logic and I/O pins.", 9 OSC1/CLKIN (in), 10 OSC2/CLKOUT (out), 11 RC0/T1OSO/T1CKI (io), 12 RC1/T1OSI (io), 13 RC2/CCP1 (io), 14 RC3/SCK/SCL (io), 15 RC4/SDI/SDA (io), 16 RC5/SDO (io), 17 RC6 (io) "PORTC is a bi-directional I/O port.", 18 RC7 (io) "PORTC is a bi-directional I/O port.", 19 VSS (power) "Ground reference for logic and I/O pins.", 20 VDD (power) "Positive supply for logic and I/O pins.", 21 RB0/INT (io), 22 RB1 (io) "PORTB is a bi-directional I/O port. PORTB can be software programmed for internal weak pull-up on all inputs.", 23 RB2 (io) "PORTB is a bi-directional I/O port. PORTB can be software programmed for internal weak pull-up on all inputs.", 24 RB3 (io) "PORTB is a bi-directional I/O port. PORTB can be software programmed for internal weak pull-up on all inputs.", 25 RB4 (io) "PORTB is a bi-directional I/O port. PORTB can be software programmed for internal weak pull-up on all inputs.Interrupt on change pin.", 26 RB5 (io) "PORTB is a bi-directional I/O port. PORTB can be software programmed for internal weak pull-up on all inputs.Interrupt on change pin.", 27 RB6 (io) "PORTB is a bi-directional I/O port. PORTB can be software programmed for internal weak pull-up on all inputs.Interrupt on change pin. Serial programming clock.", 28 RB7 (io) "PORTB is a bi-directional I/O port. PORTB can be software programmed for internal weak pull-up on all inputs.Interrupt on change pin. Serial programming data."

## PIC16C72A-04E/SP
designator U?
8-Bit CMOS Microcontroller, 4 MHz, 22 I/O, -40 to 125 degC, 28-pin SPDIP (SP28), Tube; Manufacturer: Microchip; PartNumber: PIC16C72A-04E/SP; # of A/D Channels: 5; Digital Communication: 0 -UART, 0 -A/E/USART, 0 -SPI, 0 -I2C, 0 -MSSP(SPI/I2C), 1 -SSP(SPI/I2C); I/O Pins: 22; Max. CPU Speed MHz: 4; Memory Type: OTP; Operation Voltage Range: 4V - 5.5V; Program Memory KBytes: 3.5; Program Memory KWords: 2; RAM: 128; Timers: 2 - 8-bit, 1 - 16-bit; DatasheetVersion: Rev. A; PackageVersion: C04-070B, 12/2012; PackageReference: SPDIP-SP28; PackageDescription: 28-Lead Plastic Dual In-Line, 34.86 x 6.79 mm Body, 2.54 mm Pitch; Supplier 1: Digi-Key; Supplier Part Number 1: PIC16C72A-04E/SP-ND; Supplier 2: Mouser; Supplier Part Number 2: 579-PIC16C72A-04E/SP; Packing: TUBE; RoHS: TRUE; Mounting Technology: Through Hole; ComponentLink1Description: Datasheet; ComponentLink1URL: http://ww1.microchip.com/downloads/en/DeviceDoc/35008C.pdf; ComponentLink2Description: Package Specification; ComponentLink2URL: http://www.microchip.com/stellent/groups/techpub_sg/documents/packagingspec/en012702.pdf; ComponentLink3Description: URL Link1; ComponentLink3URL: Product URL:http://www.microchip.com/datasheet/PIC16C72A
footprint MCHP-SPDIP-SP28 (DIP, 28-Leads, Body 34.86x6.79mm, Pitch 2.54mm)
pins: 1 ~{MCLR}/VPP (in), 2 RA0/AN0 (io), 3 RA1/AN1 (io), 4 RA2/AN2 (io), 5 RA3/AN3/VREF (io), 6 RA4/T0CKI (io), 7 RA5/AN4/~{SS} (io), 8 VSS (power) "Ground reference for logic and I/O pins.", 9 OSC1/CLKIN (in), 10 OSC2/CLKOUT (out), 11 RC0/T1OSO/T1CKI (io), 12 RC1/T1OSI (io), 13 RC2/CCP1 (io), 14 RC3/SCK/SCL (io), 15 RC4/SDI/SDA (io), 16 RC5/SDO (io), 17 RC6 (io) "PORTC is a bi-directional I/O port.", 18 RC7 (io) "PORTC is a bi-directional I/O port.", 19 VSS (power) "Ground reference for logic and I/O pins.", 20 VDD (power) "Positive supply for logic and I/O pins.", 21 RB0/INT (io), 22 RB1 (io) "PORTB is a bi-directional I/O port. PORTB can be software programmed for internal weak pull-up on all inputs.", 23 RB2 (io) "PORTB is a bi-directional I/O port. PORTB can be software programmed for internal weak pull-up on all inputs.", 24 RB3 (io) "PORTB is a bi-directional I/O port. PORTB can be software programmed for internal weak pull-up on all inputs.", 25 RB4 (io) "PORTB is a bi-directional I/O port. PORTB can be software programmed for internal weak pull-up on all inputs.Interrupt on change pin.", 26 RB5 (io) "PORTB is a bi-directional I/O port. PORTB can be software programmed for internal weak pull-up on all inputs.Interrupt on change pin.", 27 RB6 (io) "PORTB is a bi-directional I/O port. PORTB can be software programmed for internal weak pull-up on all inputs.Interrupt on change pin. Serial programming clock.", 28 RB7 (io) "PORTB is a bi-directional I/O port. PORTB can be software programmed for internal weak pull-up on all inputs.Interrupt on change pin. Serial programming data."

## PIC16C72A-04E/SS
designator U?
8-Bit CMOS Microcontroller, 4 MHz, 22 I/O, -40 to 125 degC, 28-pin SSOP (SS28), Tube; Manufacturer: Microchip; PartNumber: PIC16C72A-04E/SS; # of A/D Channels: 5; Digital Communication: 0 -UART, 0 -A/E/USART, 0 -SPI, 0 -I2C, 0 -MSSP(SPI/I2C), 1 -SSP(SPI/I2C); I/O Pins: 22; Max. CPU Speed MHz: 4; Memory Type: OTP; Operation Voltage Range: 4V - 5.5V; Program Memory KBytes: 3.5; Program Memory KWords: 2; RAM: 128; Timers: 2 - 8-bit, 1 - 16-bit; DatasheetVersion: Rev. A; PackageVersion: C04-073B, 12/2012; PackageReference: SSOP-SS28; PackageDescription: 28-Lead Plastic Shrink Small Outline, 10.2 x 5.3 mm Body, 0.65 mm Pitch; Supplier 1: Digi-Key; Supplier Part Number 1: PIC16C72A-04E/SS-ND; Supplier 2: Mouser; Supplier Part Number 2: 579-PIC16C72A-04E/SS; Packing: TUBE; RoHS: TRUE; Mounting Technology: Surface Mount; ComponentLink1Description: Datasheet; ComponentLink1URL: http://ww1.microchip.com/downloads/en/DeviceDoc/35008C.pdf; ComponentLink2Description: Package Specification; ComponentLink2URL: http://www.microchip.com/stellent/groups/techpub_sg/documents/packagingspec/en012702.pdf; ComponentLink3Description: URL Link1; ComponentLink3URL: Product URL:http://www.microchip.com/datasheet/PIC16C72A
footprint MCHP-SSOP-SS28_N (SOP, 28-Leads, Body 10.2x5.3mm, Pitch 0.65mm, IPC Medium Density)
footprint MCHP-SSOP-SS28_L (SOP, 28-Leads, Body 10.2x5.3mm, Pitch 0.65mm, IPC High Density)
footprint MCHP-SSOP-SS28_M (SOP, 28-Leads, Body 10.2x5.3mm, Pitch 0.65mm, IPC Low Density)
pins: 1 ~{MCLR}/VPP (in), 2 RA0/AN0 (io), 3 RA1/AN1 (io), 4 RA2/AN2 (io), 5 RA3/AN3/VREF (io), 6 RA4/T0CKI (io), 7 RA5/AN4/~{SS} (io), 8 VSS (power) "Ground reference for logic and I/O pins.", 9 OSC1/CLKIN (in), 10 OSC2/CLKOUT (out), 11 RC0/T1OSO/T1CKI (io), 12 RC1/T1OSI (io), 13 RC2/CCP1 (io), 14 RC3/SCK/SCL (io), 15 RC4/SDI/SDA (io), 16 RC5/SDO (io), 17 RC6 (io) "PORTC is a bi-directional I/O port.", 18 RC7 (io) "PORTC is a bi-directional I/O port.", 19 VSS (power) "Ground reference for logic and I/O pins.", 20 VDD (power) "Positive supply for logic and I/O pins.", 21 RB0/INT (io), 22 RB1 (io) "PORTB is a bi-directional I/O port. PORTB can be software programmed for internal weak pull-up on all inputs.", 23 RB2 (io) "PORTB is a bi-directional I/O port. PORTB can be software programmed for internal weak pull-up on all inputs.", 24 RB3 (io) "PORTB is a bi-directional I/O port. PORTB can be software programmed for internal weak pull-up on all inputs.", 25 RB4 (io) "PORTB is a bi-directional I/O port. PORTB can be software programmed for internal weak pull-up on all inputs.Interrupt on change pin.", 26 RB5 (io) "PORTB is a bi-directional I/O port. PORTB can be software programmed for internal weak pull-up on all inputs.Interrupt on change pin.", 27 RB6 (io) "PORTB is a bi-directional I/O port. PORTB can be software programmed for internal weak pull-up on all inputs.Interrupt on change pin. Serial programming clock.", 28 RB7 (io) "PORTB is a bi-directional I/O port. PORTB can be software programmed for internal weak pull-up on all inputs.Interrupt on change pin. Serial programming data."

## PIC16C72A-04I/SO
designator U?
8-Bit CMOS Microcontroller, 4 MHz, 22 I/O, -40 to 85 degC, 28-pin SOIC (SO28), Tube; Manufacturer: Microchip; PartNumber: PIC16C72A-04I/SO; # of A/D Channels: 5; Digital Communication: 0 -UART, 0 -A/E/USART, 0 -SPI, 0 -I2C, 0 -MSSP(SPI/I2C), 1 -SSP(SPI/I2C); I/O Pins: 22; Max. CPU Speed MHz: 4; Memory Type: OTP; Operation Voltage Range: 4V - 5.5V; Program Memory KBytes: 3.5; Program Memory KWords: 2; RAM: 128; Timers: 2 - 8-bit, 1 - 16-bit; DatasheetVersion: Rev. A; PackageVersion: C04-052C, 12/2012; PackageReference: SOIC-SO28; PackageDescription: 28-Lead Plastic Small Outline, 17.9 x 7.5 mm Body, 1.27 mm Pitch; Supplier 1: Digi-Key; Supplier Part Number 1: PIC16C72A-04I/SO-ND; Supplier 2: Newark; Supplier Part Number 2: 23C4616; Supplier 3: Mouser; Supplier Part Number 3: 579-PIC16C72A04ISO; Packing: TUBE; RoHS: TRUE; Mounting Technology: Surface Mount; ComponentLink1Description: Datasheet; ComponentLink1URL: http://ww1.microchip.com/downloads/en/DeviceDoc/35008C.pdf; ComponentLink2Description: Package Specification; ComponentLink2URL: http://www.microchip.com/stellent/groups/techpub_sg/documents/packagingspec/en012702.pdf; ComponentLink3Description: URL Link1; ComponentLink3URL: Product URL:http://www.microchip.com/datasheet/PIC16C72A
footprint MCHP-SOIC-SO28_N (SOIC, 28-Leads, Body 17.9x7.5mm, Pitch 1.27mm, IPC Medium Density)
footprint MCHP-SOIC-SO28_L (SOIC, 28-Leads, Body 17.9x7.5mm, Pitch 1.27mm, IPC High Density)
footprint MCHP-SOIC-SO28_M (SOIC, 28-Leads, Body 17.9x7.5mm, Pitch 1.27mm, IPC Low Density)
pins: 1 ~{MCLR}/VPP (in), 2 RA0/AN0 (io), 3 RA1/AN1 (io), 4 RA2/AN2 (io), 5 RA3/AN3/VREF (io), 6 RA4/T0CKI (io), 7 RA5/AN4/~{SS} (io), 8 VSS (power) "Ground reference for logic and I/O pins.", 9 OSC1/CLKIN (in), 10 OSC2/CLKOUT (out), 11 RC0/T1OSO/T1CKI (io), 12 RC1/T1OSI (io), 13 RC2/CCP1 (io), 14 RC3/SCK/SCL (io), 15 RC4/SDI/SDA (io), 16 RC5/SDO (io), 17 RC6 (io) "PORTC is a bi-directional I/O port.", 18 RC7 (io) "PORTC is a bi-directional I/O port.", 19 VSS (power) "Ground reference for logic and I/O pins.", 20 VDD (power) "Positive supply for logic and I/O pins.", 21 RB0/INT (io), 22 RB1 (io) "PORTB is a bi-directional I/O port. PORTB can be software programmed for internal weak pull-up on all inputs.", 23 RB2 (io) "PORTB is a bi-directional I/O port. PORTB can be software programmed for internal weak pull-up on all inputs.", 24 RB3 (io) "PORTB is a bi-directional I/O port. PORTB can be software programmed for internal weak pull-up on all inputs.", 25 RB4 (io) "PORTB is a bi-directional I/O port. PORTB can be software programmed for internal weak pull-up on all inputs.Interrupt on change pin.", 26 RB5 (io) "PORTB is a bi-directional I/O port. PORTB can be software programmed for internal weak pull-up on all inputs.Interrupt on change pin.", 27 RB6 (io) "PORTB is a bi-directional I/O port. PORTB can be software programmed for internal weak pull-up on all inputs.Interrupt on change pin. Serial programming clock.", 28 RB7 (io) "PORTB is a bi-directional I/O port. PORTB can be software programmed for internal weak pull-up on all inputs.Interrupt on change pin. Serial programming data."

## PIC16C72A-04I/SP
designator U?
8-Bit CMOS Microcontroller, 4 MHz, 22 I/O, -40 to 85 degC, 28-pin SPDIP (SP28), Tube; Manufacturer: Microchip; PartNumber: PIC16C72A-04I/SP; # of A/D Channels: 5; Digital Communication: 0 -UART, 0 -A/E/USART, 0 -SPI, 0 -I2C, 0 -MSSP(SPI/I2C), 1 -SSP(SPI/I2C); I/O Pins: 22; Max. CPU Speed MHz: 4; Memory Type: OTP; Operation Voltage Range: 4V - 5.5V; Program Memory KBytes: 3.5; Program Memory KWords: 2; RAM: 128; Timers: 2 - 8-bit, 1 - 16-bit; DatasheetVersion: Rev. A; PackageVersion: C04-070B, 12/2012; PackageReference: SPDIP-SP28; PackageDescription: 28-Lead Plastic Dual In-Line, 34.86 x 6.79 mm Body, 2.54 mm Pitch; Supplier 1: Digi-Key; Supplier Part Number 1: PIC16C72A-04I/SP-ND; Supplier 2: Newark; Supplier Part Number 2: 88K1154; Supplier 3: Mouser; Supplier Part Number 3: 579-PIC16C72A04ISP; Packing: TUBE; RoHS: TRUE; Mounting Technology: Through Hole; ComponentLink1Description: Datasheet; ComponentLink1URL: http://ww1.microchip.com/downloads/en/DeviceDoc/35008C.pdf; ComponentLink2Description: Package Specification; ComponentLink2URL: http://www.microchip.com/stellent/groups/techpub_sg/documents/packagingspec/en012702.pdf; ComponentLink3Description: URL Link1; ComponentLink3URL: Product URL:http://www.microchip.com/datasheet/PIC16C72A
footprint MCHP-SPDIP-SP28 (DIP, 28-Leads, Body 34.86x6.79mm, Pitch 2.54mm)
pins: 1 ~{MCLR}/VPP (in), 2 RA0/AN0 (io), 3 RA1/AN1 (io), 4 RA2/AN2 (io), 5 RA3/AN3/VREF (io), 6 RA4/T0CKI (io), 7 RA5/AN4/~{SS} (io), 8 VSS (power) "Ground reference for logic and I/O pins.", 9 OSC1/CLKIN (in), 10 OSC2/CLKOUT (out), 11 RC0/T1OSO/T1CKI (io), 12 RC1/T1OSI (io), 13 RC2/CCP1 (io), 14 RC3/SCK/SCL (io), 15 RC4/SDI/SDA (io), 16 RC5/SDO (io), 17 RC6 (io) "PORTC is a bi-directional I/O port.", 18 RC7 (io) "PORTC is a bi-directional I/O port.", 19 VSS (power) "Ground reference for logic and I/O pins.", 20 VDD (power) "Positive supply for logic and I/O pins.", 21 RB0/INT (io), 22 RB1 (io) "PORTB is a bi-directional I/O port. PORTB can be software programmed for internal weak pull-up on all inputs.", 23 RB2 (io) "PORTB is a bi-directional I/O port. PORTB can be software programmed for internal weak pull-up on all inputs.", 24 RB3 (io) "PORTB is a bi-directional I/O port. PORTB can be software programmed for internal weak pull-up on all inputs.", 25 RB4 (io) "PORTB is a bi-directional I/O port. PORTB can be software programmed for internal weak pull-up on all inputs.Interrupt on change pin.", 26 RB5 (io) "PORTB is a bi-directional I/O port. PORTB can be software programmed for internal weak pull-up on all inputs.Interrupt on change pin.", 27 RB6 (io) "PORTB is a bi-directional I/O port. PORTB can be software programmed for internal weak pull-up on all inputs.Interrupt on change pin. Serial programming clock.", 28 RB7 (io) "PORTB is a bi-directional I/O port. PORTB can be software programmed for internal weak pull-up on all inputs.Interrupt on change pin. Serial programming data."

## PIC16C72A-04I/SS
designator U?
8-Bit CMOS Microcontroller, 4 MHz, 22 I/O, -40 to 85 degC, 28-pin SSOP (SS28), Tube; Manufacturer: Microchip; PartNumber: PIC16C72A-04I/SS; # of A/D Channels: 5; Digital Communication: 0 -UART, 0 -A/E/USART, 0 -SPI, 0 -I2C, 0 -MSSP(SPI/I2C), 1 -SSP(SPI/I2C); I/O Pins: 22; Max. CPU Speed MHz: 4; Memory Type: OTP; Operation Voltage Range: 4V - 5.5V; Program Memory KBytes: 3.5; Program Memory KWords: 2; RAM: 128; Timers: 2 - 8-bit, 1 - 16-bit; DatasheetVersion: Rev. A; PackageVersion: C04-073B, 12/2012; PackageReference: SSOP-SS28; PackageDescription: 28-Lead Plastic Shrink Small Outline, 10.2 x 5.3 mm Body, 0.65 mm Pitch; Supplier 1: Digi-Key; Supplier Part Number 1: PIC16C72A-04I/SS-ND; Supplier 2: Mouser; Supplier Part Number 2: 579-PIC16C72A-04I/SS; Packing: TUBE; RoHS: TRUE; Mounting Technology: Surface Mount; ComponentLink1Description: Datasheet; ComponentLink1URL: http://ww1.microchip.com/downloads/en/DeviceDoc/35008C.pdf; ComponentLink2Description: Package Specification; ComponentLink2URL: http://www.microchip.com/stellent/groups/techpub_sg/documents/packagingspec/en012702.pdf; ComponentLink3Description: URL Link1; ComponentLink3URL: Product URL:http://www.microchip.com/datasheet/PIC16C72A
footprint MCHP-SSOP-SS28_N (SOP, 28-Leads, Body 10.2x5.3mm, Pitch 0.65mm, IPC Medium Density)
footprint MCHP-SSOP-SS28_L (SOP, 28-Leads, Body 10.2x5.3mm, Pitch 0.65mm, IPC High Density)
footprint MCHP-SSOP-SS28_M (SOP, 28-Leads, Body 10.2x5.3mm, Pitch 0.65mm, IPC Low Density)
pins: 1 ~{MCLR}/VPP (in), 2 RA0/AN0 (io), 3 RA1/AN1 (io), 4 RA2/AN2 (io), 5 RA3/AN3/VREF (io), 6 RA4/T0CKI (io), 7 RA5/AN4/~{SS} (io), 8 VSS (power) "Ground reference for logic and I/O pins.", 9 OSC1/CLKIN (in), 10 OSC2/CLKOUT (out), 11 RC0/T1OSO/T1CKI (io), 12 RC1/T1OSI (io), 13 RC2/CCP1 (io), 14 RC3/SCK/SCL (io), 15 RC4/SDI/SDA (io), 16 RC5/SDO (io), 17 RC6 (io) "PORTC is a bi-directional I/O port.", 18 RC7 (io) "PORTC is a bi-directional I/O port.", 19 VSS (power) "Ground reference for logic and I/O pins.", 20 VDD (power) "Positive supply for logic and I/O pins.", 21 RB0/INT (io), 22 RB1 (io) "PORTB is a bi-directional I/O port. PORTB can be software programmed for internal weak pull-up on all inputs.", 23 RB2 (io) "PORTB is a bi-directional I/O port. PORTB can be software programmed for internal weak pull-up on all inputs.", 24 RB3 (io) "PORTB is a bi-directional I/O port. PORTB can be software programmed for internal weak pull-up on all inputs.", 25 RB4 (io) "PORTB is a bi-directional I/O port. PORTB can be software programmed for internal weak pull-up on all inputs.Interrupt on change pin.", 26 RB5 (io) "PORTB is a bi-directional I/O port. PORTB can be software programmed for internal weak pull-up on all inputs.Interrupt on change pin.", 27 RB6 (io) "PORTB is a bi-directional I/O port. PORTB can be software programmed for internal weak pull-up on all inputs.Interrupt on change pin. Serial programming clock.", 28 RB7 (io) "PORTB is a bi-directional I/O port. PORTB can be software programmed for internal weak pull-up on all inputs.Interrupt on change pin. Serial programming data."